# Altium schematic symbol library EL-sense_Power.SchLib: 9 symbols
Pins are listed as number, name and electrical type; pins without a type are passive.

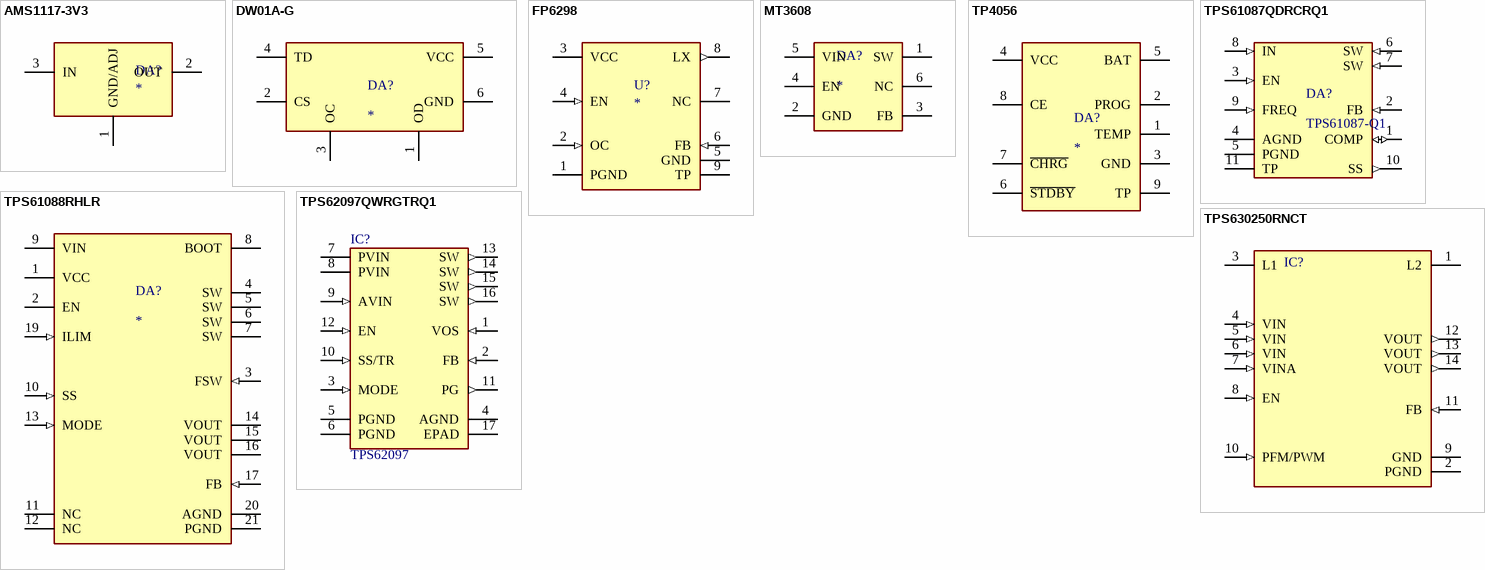
[diagram p0: symbols AMS1117-3V3 to TPS630250RNCT]

## AMS1117-3V3
designator DA?
Voltage - Input (Max) 7.5V / Voltage - Output (Min/Fixed) 3.3V / Current - Output 1A / Voltage Dropout (Max) 0.2V @ 100mA; Manufacturer: Texas Instruments; Case: SOT-223; ComponentLink1Description: Stock; ComponentLink1URL: https://www.chipdip.by/product/ams1117-3.3; ComponentLink2Description: HelpURL; ComponentLink2URL: https://static.chipdip.ru/lib/029/DOC001029248.pdf
footprint SOT223/TO261AA
pins: 1 GND/ADJ (power), 2 OUT (power), 3 IN (power)

## DW01A-G
designator DA?
Battery protection IC is designed to protect lithium-ion/polymer battery from damage or degrading the lifetime due to overcharge; Manufacturer: Fortune Semicon; Case: SOT-23-6; Supplier 1: ChipDip; ComponentLink1Description: HelpURL; ComponentLink1URL: https://ic-fortune.com/upload/Download/DW01x-DS-17_EN.pdf; ComponentLink2Description: Stock; ComponentLink2URL: *; Supplier Part Number: 8003493413
footprint SOT95P280X145-6N (SOT23, 6-Leads, Body 2,90x2,80mm, Pitch 0,95mm, IPC Medium Density)
pins: 1 OD, 2 CS, 3 OC, 4 TD, 5 VCC, 6 GND

## FP6298
designator U?
Voltage - Input (Max) 6V / Voltage - Output (Max) 12V / Current - Output 0.5 - 4.5A / Voltage Dropout (Max) 100mA; Manufacturer: Feeling Technology; Voltage - Output (Min/Fixed): 0V; Function: Step-Up; Case: SOP-8L; ComponentLink2Description: HelpURL; ComponentLink2URL: http://www.feeling-tech.com.tw/km-master/ezcatfiles/cust/img/img/24/fp6298v064.pdf; Current - Output: 0.5 - 4.5A; Voltage - Output (Max): 12V; Voltage - Input (Min): 0V; Voltage - Input (Max): 6V; Supplier 1: *; Supplier Part Number 1: *
footprint SOP-8 (TSOP, 8-Leads, Body 4,90x3,90mm, Pitch 1,27mm, Thermal Pad 4,00x2,00mm, IPC Medium Density)
pins: 1 PGND (power), 2 OC (in), 3 VCC (power), 4 EN (in), 5 GND (power), 6 FB (in), 7 NC, 8 LX (out), 9 TP (power)

## MT3608
designator DA?
Integrated 80mΩ Power MOSFET / 2V to 24V Input Voltage / 1.2MHz Fixed Switching Frequency / nternal 4A Switch Current Limit / Adjustable Output Voltage / • Internal Compensation / • Up to 28V Output Voltage / • Automatic Pulse Frequency Modulation / Mode at Light Loads up to 97% Efficiency / Available in a 6-Pin SOT23-6 Package; Manufacturer: AEROSEMI; Case: SOT-23-6; Supplier 1: ChipDip; Supplier Part Number: 8003519412; ComponentLink1Description: HelpURl; ComponentLink1URL: https://www.olimex.com/Products/Breadboarding/BB-PWR-3608/resources/MT3608.pdf
footprint SOT-23-6 (SOT23, 6-Leads, Body 2,90x2,80mm, Pitch 0,95mm, IPC Medium Density)
pins: 1 SW, 2 GND, 3 FB, 4 EN, 5 VIN, 6 NC

## TP4056
designator DA?
Input Supply Voltage(VCC)：-0.3V～8V / TEMP：-0.3V～10V / CE：-0.3V～10V / BAT Short-Circuit Duration：Continuous / BAT Pin Current：1200mA / PROG Pin Current：1200uA / Maximum Junction Temperature：145℃ / Operating Ambient Temperature Range： / -40 ～85℃ / Lead Temp.(Soldering, 10sec)：260℃; Manufacturer: NanJing Top Power ASIC Corp.; Case: SOT- 8; Supplier 1: *; ComponentLink1Description: HelpURL; ComponentLink1URL: https://static.chipdip.ru/lib/977/DOC002977110.pdf; Supplier Part Numper 1: *
footprint SOP-8 (TSOP, 8-Leads, Body 4,90x3,90mm, Pitch 1,27mm, Thermal Pad 4,00x2,00mm, IPC Medium Density)
pins: 1 TEMP (power), 2 PROG (power), 3 GND (power), 4 VCC (power), 5 BAT (power), 6 ~{STDBY} (power), 7 ~{CHRG} (power), 8 CE (power), 9 TP (power)

## TPS61087QDRCRQ1
designator DA?, comment TPS61087-Q1
Boost Switching Regulator IC Positive Adjustable 3V 1 Output 3.2A (Switch) / 10-VFDFN Exposed Pad; Manufacturer: Texas Instruments; Function: Step-Up; Current - Output: 3,2A; Voltage - Output (Max): 18,5V; Voltage - Input (Min): 2,5V; Voltage - Input (Max): 6V; ComponentLink1Description: HelpURL; ComponentLink1URL: https://www.ti.com/lit/ds/symlink/tps61087-q1.pdf?ts=1624892793575&ref_url=https%253A%252F%252Fwww.ti.com%252Fproduct%252FTPS61087-Q1%253FHQS%253DTI-null-null-octopart-df-pf-manuf-wwe; Case: 10-VFDFN Exposed Pad; Supplier 1: Mouser; Supplier Part Number 1: 595-TPS61087QDRCRQ1; Voltage - Output (Min/Fixed): 3V
footprint 10-VFDFN
pins: 1 COMP (io), 2 FB (in), 3 EN (in), 4 AGND (power), 5 PGND (power), 6 SW (in), 7 SW (in), 8 IN (in), 9 FREQ (in), 10 SS (out), 11 TP (power)

## TPS61088RHLR
designator DA?
Boost Switching Regulator IC Positive / Adjustable 4.5V 1 Output 10A / 20-VFQFN Exposed Pad; Manufacturer: Texas Instruments; Function: Step-Up; Voltage - Output (Max): 12.6V; Voltage - Input (Min): 2.7V; Voltage - Input (Max): 12V; Supplier 1: Digi-Key; Supplier Part Number 1: 296-43620-1-ND; Case: 20-VFQFN; Current - Output: 10A; Voltage - Output (Min/Fixed): 4.5V; ComponentLink1Description: HelpURL; ComponentLink1URL: https://www.ti.com/general/docs/suppproductinfo.tsp?distId=10&gotoUrl=https%3A%2F%2Fwww.ti.com%2Flit%2Fgpn%2Ftps61088
pins: 1 VCC, 2 EN, 3 FSW (in), 4 SW, 5 SW, 6 SW, 7 SW, 8 BOOT, 9 VIN, 10 SS (in), 11 NC, 12 NC, 13 MODE (in), 14 VOUT, 15 VOUT, 16 VOUT, 17 FB (in), 19 ILIM (in), 20 AGND, 21 PGND

## TPS62097QWRGTRQ1
designator IC?, comment TPS62097
Buck Switching Regulator IC Positive Fixed / 1.8V 1 Output 2A / 16-VFQFN Exposed Pad; Manufacturer: Texas Instruments; Function: Step-Down; Voltage - Output (Min/Fixed): 0.8V; Voltage - Output (Max): 6V; Voltage - Input (Min): 2,5V; ComponentLink1Description: HelpURL; ComponentLink1URL: https://www.ti.com/lit/ds/symlink/tps62097-q1.pdf?HQS=dis-dk-null-digikeymode-dsf-pf-null-wwe&ts=1624981333569; Case: 16-VFQFN Exposed Pad; Current - Output: 2A; Voltage - Input (Max): 6V; Supplier 1: Digi-Key; Supplier Part Number 1: 296-48349-1-ND
footprint VFQFN-16EP
pins: 1 VOS (in), 2 FB (in), 3 MODE (in), 4 AGND (power), 5 PGND (power), 6 PGND (power), 7 PVIN (power), 8 PVIN (power), 9 AVIN (in), 10 SS/TR (in), 11 PG (out), 12 EN (in), 13 SW (out), 14 SW (out), 15 SW (out), 16 SW (out), 17 EPAD (power)

## TPS630250RNCT
designator IC?
Buck-Boost Switching Regulator IC Positive / Adjustable 2.3V 1 Output 2A, 4A / 14-VFQFN; Manufacturer: Texas Instruments; Function: Step-Down; Current - Output: 2A, 4A; Voltage - Output (Max): 3.6V; Voltage - Input (Max): 5.5V; ComponentLink1Description: HelpURL; ComponentLink1URL: https://www.ti.com/lit/ds/symlink/tps630250.pdf?HQS=dis-dk-null-digikeymode-dsf-pf-null-wwe&ts=1633588833264&ref_url=https%253A%252F%252Fwww.ti.com%252Fgeneral%252Fdocs%252Fsuppproductinfo.tsp%253FdistId%253D10%2526gotoUrl%253Dhttps%253A%252F%252Fwww.ti.com%252Flit%252Fgpn%252Ftps630250; Case: 14-VFQFN; Voltage - Output (Min/Fixed): 2.3V; Voltage - Input (Min): 2.3V; Supplier 1: Digi-Key; Supplier Part Number 1: 296-42036-1-ND
footprint 14-VFQFN
pins: 1 L2, 2 PGND (power), 3 L1, 4 VIN (in), 5 VIN (in), 6 VIN (in), 7 VINA (in), 8 EN (in), 9 GND (power), 10 PFM/PWM (in), 11 FB (in), 12 VOUT (out), 13 VOUT (out), 14 VOUT (out)